# Altium schematic symbol library 100ASK_STM32F103_MINI.SCHLIB: 20 symbols
Pins are listed as number, name and electrical type; pins without a type are passive.

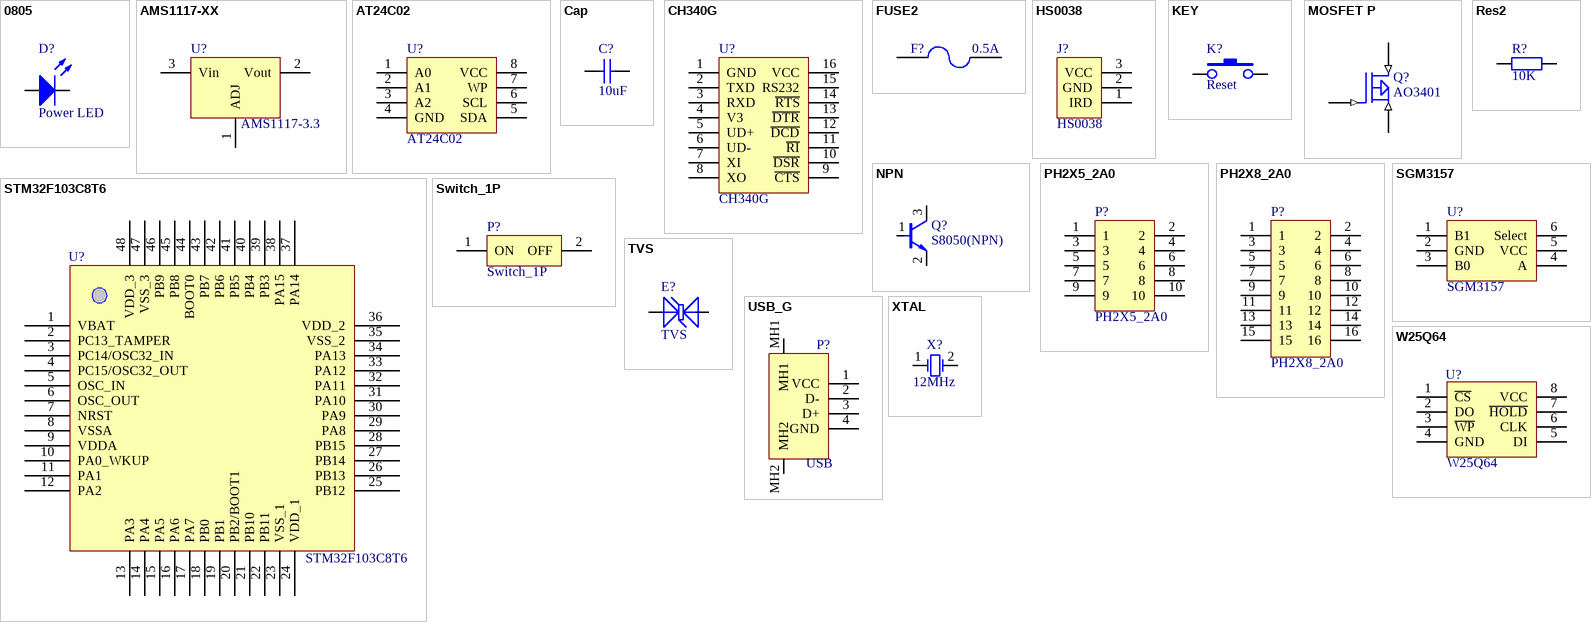
[diagram p0: symbols 0805 to XTAL]

## 0805
designator D?, comment Power LED
footprint 0603_LED
pins: A, K

## AMS1117-XX
designator U?, comment AMS1117-3.3
footprint SOT_223
footprint SOT-223
pins: 1 ADJ, 2 Vout, 3 Vin

## AT24C02
designator U?
footprint SOP-8
pins: 1 A0, 2 A1, 3 A2, 4 GND, 5 SDA, 6 SCL, 7 WP, 8 VCC

## Cap
designator C?, comment 10uF
Value: 10uF
footprint 0603_C
pins: 1, 2

## CH340G
designator U?
footprint SOP-16
pins: 1 GND, 2 TXD, 3 RXD, 4 V3, 5 UD+, 6 UD-, 7 XI, 8 XO, 9 ~{CTS}, 10 ~{DSR}, 11 ~{RI}, 12 ~{DCD}, 13 ~{DTR}, 14 ~{RTS}, 15 RS232, 16 VCC

## FUSE2
designator F?, comment 0.5A
footprint F1206
pins: 1, 2

## HS0038
designator J?
footprint HS0038
pins: 1 IRD, 2 GND, 3 VCC

## KEY
designator K?, comment Reset
footprint KEY-SMT
footprint SW/4/SMT
footprint SW/2/R1
footprint KEY/01
footprint KEY_3A5X2A5
pins: 1, 2

## MOSFET P
designator Q?, comment AO3401
footprint SOT-23
pins: 1 G (in), 2 S (in), 3 D (in)

## NPN
designator Q?, comment S8050(NPN)
footprint SOT-23
footprint SOT-23
pins: 1 B, 2 E, 3 C

## PH2X5_2A0
designator P?
footprint PH2*5_2A00
pins: 1, 2, 3, 4, 5, 6, 7, 8, 9, 10

## PH2X8_2A0
designator P?
footprint PH2*8_2A00
pins: 1, 2, 3, 4, 5, 6, 7, 8, 9, 10, 11, 12, 13, 14, 15, 16

## Res2
designator R?, comment 10K
footprint 0402_R
pins: 1, 2

## SGM3157
designator U?
footprint SC-70-6
pins: 1 B1, 2 GND, 3 B0, 4 A, 5 VCC, 6 Select

## STM32F103C8T6
designator U?
footprint LQFP-48 (STM32F103C8T6)
pins: 1 VBAT, 2 PC13_TAMPER, 3 PC14/OSC32_IN, 4 PC15/OSC32_OUT, 5 OSC_IN, 6 OSC_OUT, 7 NRST, 8 VSSA, 9 VDDA, 10 PA0_WKUP, 11 PA1, 12 PA2, 13 PA3, 14 PA4, 15 PA5, 16 PA6, 17 PA7, 18 PB0, 19 PB1, 20 PB2/BOOT1, 21 PB10, 22 PB11, 23 VSS_1, 24 VDD_1, 25 PB12, 26 PB13, 27 PB14, 28 PB15, 29 PA8, 30 PA9, 31 PA10, 32 PA11, 33 PA12, 34 PA13, 35 VSS_2, 36 VDD_2, 37 PA14, 38 PA15, 39 PB3, 40 PB4, 41 PB5, 42 PB6, 43 PB7, 44 BOOT0, 45 PB8, 46 PB9, 47 VSS_3, 48 VDD_3

## Switch_1P
designator P?
footprint DS-01BP
pins: 1 ON, 2 OFF

## TVS
designator E?
footprint 0402_D
pins: 1 A, 2 K

## USB_G
designator P?, comment USB
footprint USB_A_G
pins: 1 VCC, 2 D-, 3 D+, 4 GND, MH1, MH2

## W25Q64
designator U?
footprint SOIC-8
pins: 1 ~{CS}, 2 DO, 3 ~{WP}, 4 GND, 5 DI, 6 CLK, 7 ~{HOLD}, 8 VCC

## XTAL
designator X?, comment 12MHz
footprint X/2.5/2/6/2.5
pins: 1 OSC1, 2 OSC2